# Altium schematic symbol library MCU_ST_STM32C0.SchLib: 28 symbols
Pins are listed as number, name and electrical type; pins without a type are passive.

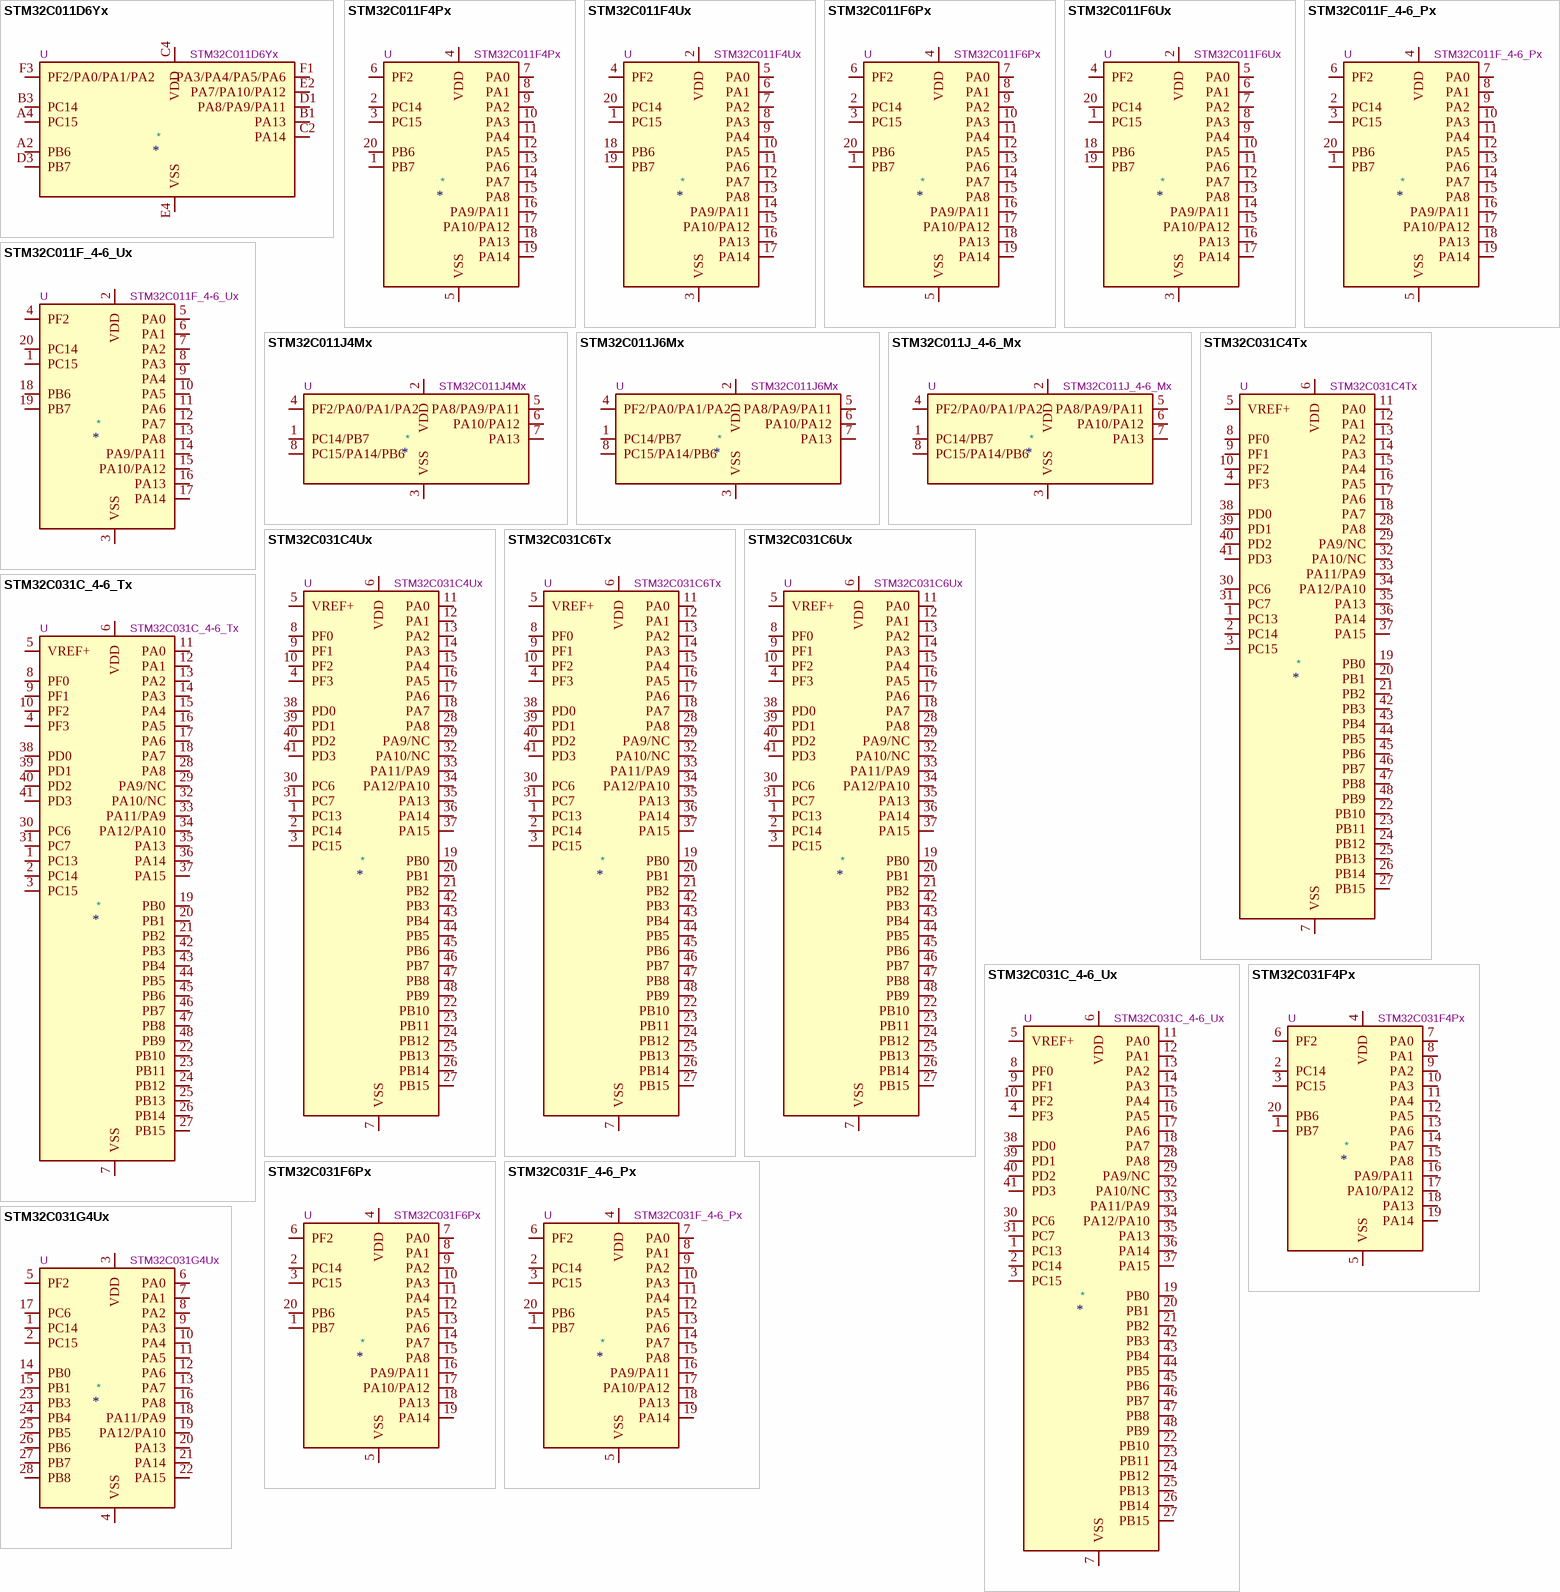
[diagram p0: symbols STM32C011D6Yx to STM32C031G4Ux]

## STM32C011D6Yx
designator *  value STM32C011D6Yx  Reference: U
ki_keywords: Arm Cortex-M0+ STM32C0 STM32C0x1; ki_description: STMicroelectronics Arm Cortex-M0+ MCU, 32KB flash, 6KB RAM, 48 MHz, 2.0-3.6V, 10 GPIO, WLCSP12; ki_fp_filters: ST*WLCSP*Die443*; Footprint: Package_CSP:ST_WLCSP-12_Die443; Datasheet: https://www.st.com/resource/en/datasheet/stm32c011d6.pdf
pins: A2 PB6, A4 PC15, B1 PA13, B3 PC14, C2 PA14, C4 VDD, D1 PA8/PA9/PA11, D3 PB7, E2 PA7/PA10/PA12, E4 VSS, F1 PA3/PA4/PA5/PA6, F3 PF2/PA0/PA1/PA2

## STM32C011F4Px
designator *  value STM32C011F4Px  Reference: U
ki_keywords: Arm Cortex-M0+ STM32C0 STM32C0x1; ki_description: STMicroelectronics Arm Cortex-M0+ MCU, 16KB flash, 6KB RAM, 48 MHz, 2.0-3.6V, 18 GPIO, TSSOP20; ki_fp_filters: TSSOP*4.4x6.5mm*P0.65mm*; Footprint: Package_SO:TSSOP-20_4.4x6.5mm_P0.65mm; Datasheet: https://www.st.com/resource/en/datasheet/stm32c011f4.pdf
pins: 1 PB7, 2 PC14, 3 PC15, 4 VDD, 5 VSS, 6 PF2, 7 PA0, 8 PA1, 9 PA2, 10 PA3, 11 PA4, 12 PA5, 13 PA6, 14 PA7, 15 PA8, 16 PA9/PA11, 17 PA10/PA12, 18 PA13, 19 PA14, 20 PB6

## STM32C011F4Ux
designator *  value STM32C011F4Ux  Reference: U
ki_keywords: Arm Cortex-M0+ STM32C0 STM32C0x1; ki_description: STMicroelectronics Arm Cortex-M0+ MCU, 16KB flash, 6KB RAM, 48 MHz, 2.0-3.6V, 18 GPIO, UFQFPN20; ki_fp_filters: ST*UFQFPN*3x3mm*P0.5mm*; Footprint: Package_DFN_QFN:ST_UFQFPN-20_3x3mm_P0.5mm; Datasheet: https://www.st.com/resource/en/datasheet/stm32c011f4.pdf
pins: 1 PC15, 2 VDD, 3 VSS, 4 PF2, 5 PA0, 6 PA1, 7 PA2, 8 PA3, 9 PA4, 10 PA5, 11 PA6, 12 PA7, 13 PA8, 14 PA9/PA11, 15 PA10/PA12, 16 PA13, 17 PA14, 18 PB6, 19 PB7, 20 PC14

## STM32C011F6Px
designator *  value STM32C011F6Px  Reference: U
ki_keywords: Arm Cortex-M0+ STM32C0 STM32C0x1; ki_description: STMicroelectronics Arm Cortex-M0+ MCU, 32KB flash, 6KB RAM, 48 MHz, 2.0-3.6V, 18 GPIO, TSSOP20; ki_fp_filters: TSSOP*4.4x6.5mm*P0.65mm*; Footprint: Package_SO:TSSOP-20_4.4x6.5mm_P0.65mm; Datasheet: https://www.st.com/resource/en/datasheet/stm32c011f6.pdf
pins: 1 PB7, 2 PC14, 3 PC15, 4 VDD, 5 VSS, 6 PF2, 7 PA0, 8 PA1, 9 PA2, 10 PA3, 11 PA4, 12 PA5, 13 PA6, 14 PA7, 15 PA8, 16 PA9/PA11, 17 PA10/PA12, 18 PA13, 19 PA14, 20 PB6

## STM32C011F6Ux
designator *  value STM32C011F6Ux  Reference: U
ki_keywords: Arm Cortex-M0+ STM32C0 STM32C0x1; ki_description: STMicroelectronics Arm Cortex-M0+ MCU, 32KB flash, 6KB RAM, 48 MHz, 2.0-3.6V, 18 GPIO, UFQFPN20; ki_fp_filters: ST*UFQFPN*3x3mm*P0.5mm*; Footprint: Package_DFN_QFN:ST_UFQFPN-20_3x3mm_P0.5mm; Datasheet: https://www.st.com/resource/en/datasheet/stm32c011f6.pdf
pins: 1 PC15, 2 VDD, 3 VSS, 4 PF2, 5 PA0, 6 PA1, 7 PA2, 8 PA3, 9 PA4, 10 PA5, 11 PA6, 12 PA7, 13 PA8, 14 PA9/PA11, 15 PA10/PA12, 16 PA13, 17 PA14, 18 PB6, 19 PB7, 20 PC14

## STM32C011F_4-6_Px
designator *  value STM32C011F_4-6_Px  Reference: U
ki_keywords: Arm Cortex-M0+ STM32C0 STM32C0x1; ki_description: STMicroelectronics Arm Cortex-M0+ MCU, 16-32KB flash, 6KB RAM, 48 MHz, 2.0-3.6V, 18 GPIO, TSSOP20; ki_fp_filters: TSSOP*4.4x6.5mm*P0.65mm*; Footprint: Package_SO:TSSOP-20_4.4x6.5mm_P0.65mm; Datasheet: https://www.st.com/resource/en/datasheet/stm32c011f4.pdf
pins: 1 PB7, 2 PC14, 3 PC15, 4 VDD, 5 VSS, 6 PF2, 7 PA0, 8 PA1, 9 PA2, 10 PA3, 11 PA4, 12 PA5, 13 PA6, 14 PA7, 15 PA8, 16 PA9/PA11, 17 PA10/PA12, 18 PA13, 19 PA14, 20 PB6

## STM32C011F_4-6_Ux
designator *  value STM32C011F_4-6_Ux  Reference: U
ki_keywords: Arm Cortex-M0+ STM32C0 STM32C0x1; ki_description: STMicroelectronics Arm Cortex-M0+ MCU, 16-32KB flash, 6KB RAM, 48 MHz, 2.0-3.6V, 18 GPIO, UFQFPN20; ki_fp_filters: ST*UFQFPN*3x3mm*P0.5mm*; Footprint: Package_DFN_QFN:ST_UFQFPN-20_3x3mm_P0.5mm; Datasheet: https://www.st.com/resource/en/datasheet/stm32c011f4.pdf
pins: 1 PC15, 2 VDD, 3 VSS, 4 PF2, 5 PA0, 6 PA1, 7 PA2, 8 PA3, 9 PA4, 10 PA5, 11 PA6, 12 PA7, 13 PA8, 14 PA9/PA11, 15 PA10/PA12, 16 PA13, 17 PA14, 18 PB6, 19 PB7, 20 PC14

## STM32C011J4Mx
designator *  value STM32C011J4Mx  Reference: U
ki_keywords: Arm Cortex-M0+ STM32C0 STM32C0x1; ki_description: STMicroelectronics Arm Cortex-M0+ MCU, 16KB flash, 6KB RAM, 48 MHz, 2.0-3.6V, 6 GPIO, SO8N; ki_fp_filters: SO*3.9x4.9mm*P1.27mm*; Footprint: Package_SO:SOIC-8_3.9x4.9mm_P1.27mm; Datasheet: https://www.st.com/resource/en/datasheet/stm32c011j4.pdf
pins: 1 PC14/PB7, 2 VDD, 3 VSS, 4 PF2/PA0/PA1/PA2, 5 PA8/PA9/PA11, 6 PA10/PA12, 7 PA13, 8 PC15/PA14/PB6

## STM32C011J6Mx
designator *  value STM32C011J6Mx  Reference: U
ki_keywords: Arm Cortex-M0+ STM32C0 STM32C0x1; ki_description: STMicroelectronics Arm Cortex-M0+ MCU, 32KB flash, 6KB RAM, 48 MHz, 2.0-3.6V, 6 GPIO, SO8N; ki_fp_filters: SO*3.9x4.9mm*P1.27mm*; Footprint: Package_SO:SOIC-8_3.9x4.9mm_P1.27mm; Datasheet: https://www.st.com/resource/en/datasheet/stm32c011j6.pdf
pins: 1 PC14/PB7, 2 VDD, 3 VSS, 4 PF2/PA0/PA1/PA2, 5 PA8/PA9/PA11, 6 PA10/PA12, 7 PA13, 8 PC15/PA14/PB6

## STM32C011J_4-6_Mx
designator *  value STM32C011J_4-6_Mx  Reference: U
ki_keywords: Arm Cortex-M0+ STM32C0 STM32C0x1; ki_description: STMicroelectronics Arm Cortex-M0+ MCU, 16-32KB flash, 6KB RAM, 48 MHz, 2.0-3.6V, 6 GPIO, SO8N; ki_fp_filters: SO*3.9x4.9mm*P1.27mm*; Footprint: Package_SO:SOIC-8_3.9x4.9mm_P1.27mm; Datasheet: https://www.st.com/resource/en/datasheet/stm32c011j4.pdf
pins: 1 PC14/PB7, 2 VDD, 3 VSS, 4 PF2/PA0/PA1/PA2, 5 PA8/PA9/PA11, 6 PA10/PA12, 7 PA13, 8 PC15/PA14/PB6

## STM32C031C4Tx
designator *  value STM32C031C4Tx  Reference: U
ki_keywords: Arm Cortex-M0+ STM32C0 STM32C0x1; ki_description: STMicroelectronics Arm Cortex-M0+ MCU, 16KB flash, 12KB RAM, 48 MHz, 2.0-3.6V, 45 GPIO, LQFP48; ki_fp_filters: LQFP*7x7mm*P0.5mm*; Footprint: Package_QFP:LQFP-48_7x7mm_P0.5mm; Datasheet: https://www.st.com/resource/en/datasheet/stm32c031c4.pdf
pins: 1 PC13, 2 PC14, 3 PC15, 4 PF3, 5 VREF+, 6 VDD, 7 VSS, 8 PF0, 9 PF1, 10 PF2, 11 PA0, 12 PA1, 13 PA2, 14 PA3, 15 PA4, 16 PA5, 17 PA6, 18 PA7, 19 PB0, 20 PB1, 21 PB2, 22 PB10, 23 PB11, 24 PB12, 25 PB13, 26 PB14, 27 PB15, 28 PA8, 29 PA9/NC, 30 PC6, 31 PC7, 32 PA10/NC, 33 PA11/PA9, 34 PA12/PA10, 35 PA13, 36 PA14, 37 PA15, 38 PD0, 39 PD1, 40 PD2, 41 PD3, 42 PB3, 43 PB4, 44 PB5, 45 PB6, 46 PB7, 47 PB8, 48 PB9

## STM32C031C4Ux
designator *  value STM32C031C4Ux  Reference: U
ki_keywords: Arm Cortex-M0+ STM32C0 STM32C0x1; ki_description: STMicroelectronics Arm Cortex-M0+ MCU, 16KB flash, 12KB RAM, 48 MHz, 2.0-3.6V, 45 GPIO, UFQFPN48; ki_fp_filters: QFN*1EP*7x7mm*P0.5mm*; Footprint: Package_DFN_QFN:QFN-48-1EP_7x7mm_P0.5mm_EP5.6x5.6mm; Datasheet: https://www.st.com/resource/en/datasheet/stm32c031c4.pdf
pins: 1 PC13, 2 PC14, 3 PC15, 4 PF3, 5 VREF+, 6 VDD, 7 VSS, 8 PF0, 9 PF1, 10 PF2, 11 PA0, 12 PA1, 13 PA2, 14 PA3, 15 PA4, 16 PA5, 17 PA6, 18 PA7, 19 PB0, 20 PB1, 21 PB2, 22 PB10, 23 PB11, 24 PB12, 25 PB13, 26 PB14, 27 PB15, 28 PA8, 29 PA9/NC, 30 PC6, 31 PC7, 32 PA10/NC, 33 PA11/PA9, 34 PA12/PA10, 35 PA13, 36 PA14, 37 PA15, 38 PD0, 39 PD1, 40 PD2, 41 PD3, 42 PB3, 43 PB4, 44 PB5, 45 PB6, 46 PB7, 47 PB8, 48 PB9, 49 VSS hidden

## STM32C031C6Tx
designator *  value STM32C031C6Tx  Reference: U
ki_keywords: Arm Cortex-M0+ STM32C0 STM32C0x1; ki_description: STMicroelectronics Arm Cortex-M0+ MCU, 32KB flash, 12KB RAM, 48 MHz, 2.0-3.6V, 45 GPIO, LQFP48; ki_fp_filters: LQFP*7x7mm*P0.5mm*; Footprint: Package_QFP:LQFP-48_7x7mm_P0.5mm; Datasheet: https://www.st.com/resource/en/datasheet/stm32c031c6.pdf
pins: 1 PC13, 2 PC14, 3 PC15, 4 PF3, 5 VREF+, 6 VDD, 7 VSS, 8 PF0, 9 PF1, 10 PF2, 11 PA0, 12 PA1, 13 PA2, 14 PA3, 15 PA4, 16 PA5, 17 PA6, 18 PA7, 19 PB0, 20 PB1, 21 PB2, 22 PB10, 23 PB11, 24 PB12, 25 PB13, 26 PB14, 27 PB15, 28 PA8, 29 PA9/NC, 30 PC6, 31 PC7, 32 PA10/NC, 33 PA11/PA9, 34 PA12/PA10, 35 PA13, 36 PA14, 37 PA15, 38 PD0, 39 PD1, 40 PD2, 41 PD3, 42 PB3, 43 PB4, 44 PB5, 45 PB6, 46 PB7, 47 PB8, 48 PB9

## STM32C031C6Ux
designator *  value STM32C031C6Ux  Reference: U
ki_keywords: Arm Cortex-M0+ STM32C0 STM32C0x1; ki_description: STMicroelectronics Arm Cortex-M0+ MCU, 32KB flash, 12KB RAM, 48 MHz, 2.0-3.6V, 45 GPIO, UFQFPN48; ki_fp_filters: QFN*1EP*7x7mm*P0.5mm*; Footprint: Package_DFN_QFN:QFN-48-1EP_7x7mm_P0.5mm_EP5.6x5.6mm; Datasheet: https://www.st.com/resource/en/datasheet/stm32c031c6.pdf
pins: 1 PC13, 2 PC14, 3 PC15, 4 PF3, 5 VREF+, 6 VDD, 7 VSS, 8 PF0, 9 PF1, 10 PF2, 11 PA0, 12 PA1, 13 PA2, 14 PA3, 15 PA4, 16 PA5, 17 PA6, 18 PA7, 19 PB0, 20 PB1, 21 PB2, 22 PB10, 23 PB11, 24 PB12, 25 PB13, 26 PB14, 27 PB15, 28 PA8, 29 PA9/NC, 30 PC6, 31 PC7, 32 PA10/NC, 33 PA11/PA9, 34 PA12/PA10, 35 PA13, 36 PA14, 37 PA15, 38 PD0, 39 PD1, 40 PD2, 41 PD3, 42 PB3, 43 PB4, 44 PB5, 45 PB6, 46 PB7, 47 PB8, 48 PB9, 49 VSS hidden

## STM32C031C_4-6_Tx
designator *  value STM32C031C_4-6_Tx  Reference: U
ki_keywords: Arm Cortex-M0+ STM32C0 STM32C0x1; ki_description: STMicroelectronics Arm Cortex-M0+ MCU, 16-32KB flash, 12KB RAM, 48 MHz, 2.0-3.6V, 45 GPIO, LQFP48; ki_fp_filters: LQFP*7x7mm*P0.5mm*; Footprint: Package_QFP:LQFP-48_7x7mm_P0.5mm; Datasheet: https://www.st.com/resource/en/datasheet/stm32c031c4.pdf
pins: 1 PC13, 2 PC14, 3 PC15, 4 PF3, 5 VREF+, 6 VDD, 7 VSS, 8 PF0, 9 PF1, 10 PF2, 11 PA0, 12 PA1, 13 PA2, 14 PA3, 15 PA4, 16 PA5, 17 PA6, 18 PA7, 19 PB0, 20 PB1, 21 PB2, 22 PB10, 23 PB11, 24 PB12, 25 PB13, 26 PB14, 27 PB15, 28 PA8, 29 PA9/NC, 30 PC6, 31 PC7, 32 PA10/NC, 33 PA11/PA9, 34 PA12/PA10, 35 PA13, 36 PA14, 37 PA15, 38 PD0, 39 PD1, 40 PD2, 41 PD3, 42 PB3, 43 PB4, 44 PB5, 45 PB6, 46 PB7, 47 PB8, 48 PB9

## STM32C031C_4-6_Ux
designator *  value STM32C031C_4-6_Ux  Reference: U
ki_keywords: Arm Cortex-M0+ STM32C0 STM32C0x1; ki_description: STMicroelectronics Arm Cortex-M0+ MCU, 16-32KB flash, 12KB RAM, 48 MHz, 2.0-3.6V, 45 GPIO, UFQFPN48; ki_fp_filters: QFN*1EP*7x7mm*P0.5mm*; Footprint: Package_DFN_QFN:QFN-48-1EP_7x7mm_P0.5mm_EP5.6x5.6mm; Datasheet: https://www.st.com/resource/en/datasheet/stm32c031c4.pdf
pins: 1 PC13, 2 PC14, 3 PC15, 4 PF3, 5 VREF+, 6 VDD, 7 VSS, 8 PF0, 9 PF1, 10 PF2, 11 PA0, 12 PA1, 13 PA2, 14 PA3, 15 PA4, 16 PA5, 17 PA6, 18 PA7, 19 PB0, 20 PB1, 21 PB2, 22 PB10, 23 PB11, 24 PB12, 25 PB13, 26 PB14, 27 PB15, 28 PA8, 29 PA9/NC, 30 PC6, 31 PC7, 32 PA10/NC, 33 PA11/PA9, 34 PA12/PA10, 35 PA13, 36 PA14, 37 PA15, 38 PD0, 39 PD1, 40 PD2, 41 PD3, 42 PB3, 43 PB4, 44 PB5, 45 PB6, 46 PB7, 47 PB8, 48 PB9, 49 VSS hidden

## STM32C031F4Px
designator *  value STM32C031F4Px  Reference: U
ki_keywords: Arm Cortex-M0+ STM32C0 STM32C0x1; ki_description: STMicroelectronics Arm Cortex-M0+ MCU, 16KB flash, 12KB RAM, 48 MHz, 2.0-3.6V, 18 GPIO, TSSOP20; ki_fp_filters: TSSOP*4.4x6.5mm*P0.65mm*; Footprint: Package_SO:TSSOP-20_4.4x6.5mm_P0.65mm; Datasheet: https://www.st.com/resource/en/datasheet/stm32c031f4.pdf
pins: 1 PB7, 2 PC14, 3 PC15, 4 VDD, 5 VSS, 6 PF2, 7 PA0, 8 PA1, 9 PA2, 10 PA3, 11 PA4, 12 PA5, 13 PA6, 14 PA7, 15 PA8, 16 PA9/PA11, 17 PA10/PA12, 18 PA13, 19 PA14, 20 PB6

## STM32C031F6Px
designator *  value STM32C031F6Px  Reference: U
ki_keywords: Arm Cortex-M0+ STM32C0 STM32C0x1; ki_description: STMicroelectronics Arm Cortex-M0+ MCU, 32KB flash, 12KB RAM, 48 MHz, 2.0-3.6V, 18 GPIO, TSSOP20; ki_fp_filters: TSSOP*4.4x6.5mm*P0.65mm*; Footprint: Package_SO:TSSOP-20_4.4x6.5mm_P0.65mm; Datasheet: https://www.st.com/resource/en/datasheet/stm32c031f6.pdf
pins: 1 PB7, 2 PC14, 3 PC15, 4 VDD, 5 VSS, 6 PF2, 7 PA0, 8 PA1, 9 PA2, 10 PA3, 11 PA4, 12 PA5, 13 PA6, 14 PA7, 15 PA8, 16 PA9/PA11, 17 PA10/PA12, 18 PA13, 19 PA14, 20 PB6

## STM32C031F_4-6_Px
designator *  value STM32C031F_4-6_Px  Reference: U
ki_keywords: Arm Cortex-M0+ STM32C0 STM32C0x1; ki_description: STMicroelectronics Arm Cortex-M0+ MCU, 16-32KB flash, 12KB RAM, 48 MHz, 2.0-3.6V, 18 GPIO, TSSOP20; ki_fp_filters: TSSOP*4.4x6.5mm*P0.65mm*; Footprint: Package_SO:TSSOP-20_4.4x6.5mm_P0.65mm; Datasheet: https://www.st.com/resource/en/datasheet/stm32c031f4.pdf
pins: 1 PB7, 2 PC14, 3 PC15, 4 VDD, 5 VSS, 6 PF2, 7 PA0, 8 PA1, 9 PA2, 10 PA3, 11 PA4, 12 PA5, 13 PA6, 14 PA7, 15 PA8, 16 PA9/PA11, 17 PA10/PA12, 18 PA13, 19 PA14, 20 PB6

## STM32C031G4Ux
designator *  value STM32C031G4Ux  Reference: U
ki_keywords: Arm Cortex-M0+ STM32C0 STM32C0x1; ki_description: STMicroelectronics Arm Cortex-M0+ MCU, 16KB flash, 12KB RAM, 48 MHz, 2.0-3.6V, 26 GPIO, UFQFPN28; ki_fp_filters: QFN*4x4mm*P0.5mm*; Footprint: Package_DFN_QFN:QFN-28_4x4mm_P0.5mm; Datasheet: https://www.st.com/resource/en/datasheet/stm32c031g4.pdf
pins: 1 PC14, 2 PC15, 3 VDD, 4 VSS, 5 PF2, 6 PA0, 7 PA1, 8 PA2, 9 PA3, 10 PA4, 11 PA5, 12 PA6, 13 PA7, 14 PB0, 15 PB1, 16 PA8, 17 PC6, 18 PA11/PA9, 19 PA12/PA10, 20 PA13, 21 PA14, 22 PA15, 23 PB3, 24 PB4, 25 PB5, 26 PB6, 27 PB7, 28 PB8

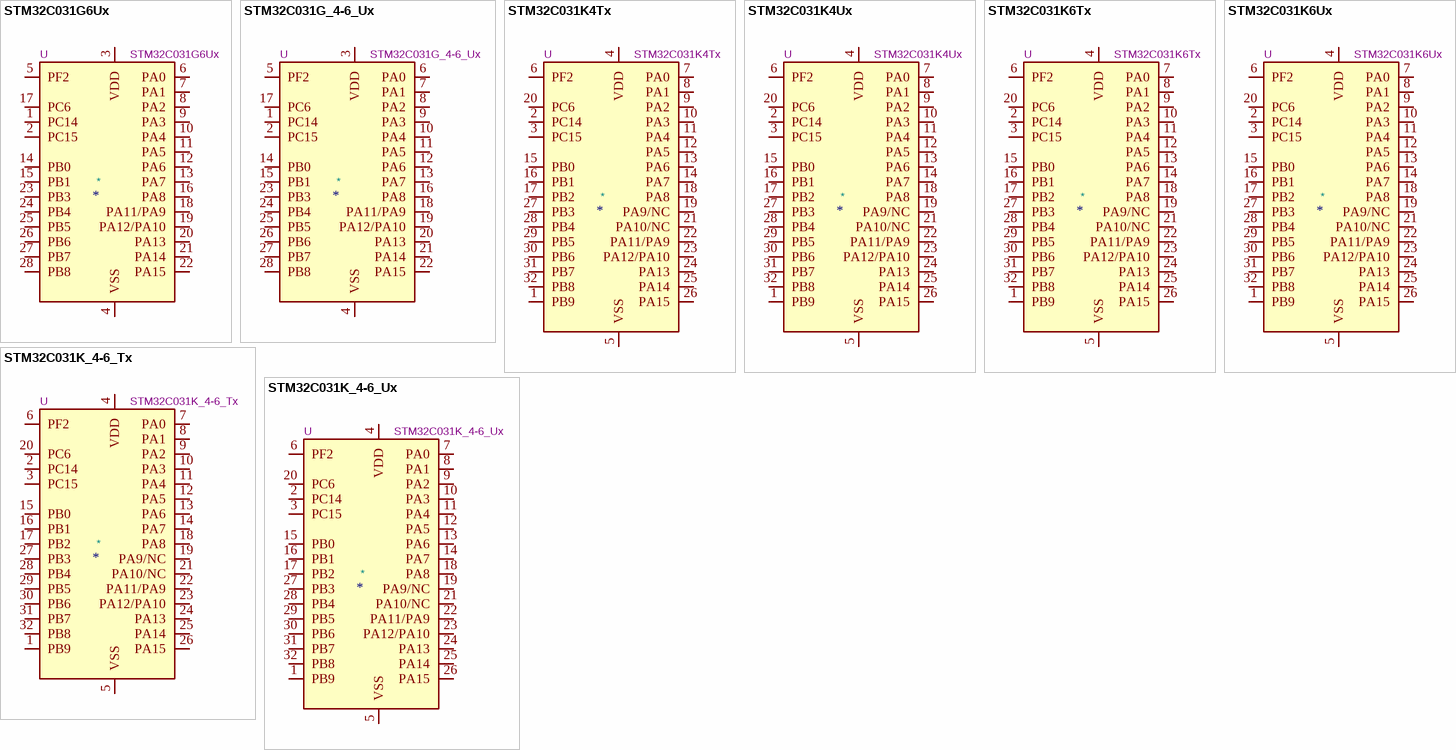
[diagram p1: symbols STM32C031G6Ux to STM32C031K_4-6_Ux]

## STM32C031G6Ux
designator *  value STM32C031G6Ux  Reference: U
ki_keywords: Arm Cortex-M0+ STM32C0 STM32C0x1; ki_description: STMicroelectronics Arm Cortex-M0+ MCU, 32KB flash, 12KB RAM, 48 MHz, 2.0-3.6V, 26 GPIO, UFQFPN28; ki_fp_filters: QFN*4x4mm*P0.5mm*; Footprint: Package_DFN_QFN:QFN-28_4x4mm_P0.5mm; Datasheet: https://www.st.com/resource/en/datasheet/stm32c031g6.pdf
pins: 1 PC14, 2 PC15, 3 VDD, 4 VSS, 5 PF2, 6 PA0, 7 PA1, 8 PA2, 9 PA3, 10 PA4, 11 PA5, 12 PA6, 13 PA7, 14 PB0, 15 PB1, 16 PA8, 17 PC6, 18 PA11/PA9, 19 PA12/PA10, 20 PA13, 21 PA14, 22 PA15, 23 PB3, 24 PB4, 25 PB5, 26 PB6, 27 PB7, 28 PB8

## STM32C031G_4-6_Ux
designator *  value STM32C031G_4-6_Ux  Reference: U
ki_keywords: Arm Cortex-M0+ STM32C0 STM32C0x1; ki_description: STMicroelectronics Arm Cortex-M0+ MCU, 16-32KB flash, 12KB RAM, 48 MHz, 2.0-3.6V, 26 GPIO, UFQFPN28; ki_fp_filters: QFN*4x4mm*P0.5mm*; Footprint: Package_DFN_QFN:QFN-28_4x4mm_P0.5mm; Datasheet: https://www.st.com/resource/en/datasheet/stm32c031g4.pdf
pins: 1 PC14, 2 PC15, 3 VDD, 4 VSS, 5 PF2, 6 PA0, 7 PA1, 8 PA2, 9 PA3, 10 PA4, 11 PA5, 12 PA6, 13 PA7, 14 PB0, 15 PB1, 16 PA8, 17 PC6, 18 PA11/PA9, 19 PA12/PA10, 20 PA13, 21 PA14, 22 PA15, 23 PB3, 24 PB4, 25 PB5, 26 PB6, 27 PB7, 28 PB8

## STM32C031K4Tx
designator *  value STM32C031K4Tx  Reference: U
ki_keywords: Arm Cortex-M0+ STM32C0 STM32C0x1; ki_description: STMicroelectronics Arm Cortex-M0+ MCU, 16KB flash, 12KB RAM, 48 MHz, 2.0-3.6V, 30 GPIO, LQFP32; ki_fp_filters: LQFP*7x7mm*P0.8mm*; Footprint: Package_QFP:LQFP-32_7x7mm_P0.8mm; Datasheet: https://www.st.com/resource/en/datasheet/stm32c031k4.pdf
pins: 1 PB9, 2 PC14, 3 PC15, 4 VDD, 5 VSS, 6 PF2, 7 PA0, 8 PA1, 9 PA2, 10 PA3, 11 PA4, 12 PA5, 13 PA6, 14 PA7, 15 PB0, 16 PB1, 17 PB2, 18 PA8, 19 PA9/NC, 20 PC6, 21 PA10/NC, 22 PA11/PA9, 23 PA12/PA10, 24 PA13, 25 PA14, 26 PA15, 27 PB3, 28 PB4, 29 PB5, 30 PB6, 31 PB7, 32 PB8

## STM32C031K4Ux
designator *  value STM32C031K4Ux  Reference: U
ki_keywords: Arm Cortex-M0+ STM32C0 STM32C0x1; ki_description: STMicroelectronics Arm Cortex-M0+ MCU, 16KB flash, 12KB RAM, 48 MHz, 2.0-3.6V, 30 GPIO, UFQFPN32; ki_fp_filters: QFN*1EP*5x5mm*P0.5mm*; Footprint: Package_DFN_QFN:QFN-32-1EP_5x5mm_P0.5mm_EP3.45x3.45mm; Datasheet: https://www.st.com/resource/en/datasheet/stm32c031k4.pdf
pins: 1 PB9, 2 PC14, 3 PC15, 4 VDD, 5 VSS, 6 PF2, 7 PA0, 8 PA1, 9 PA2, 10 PA3, 11 PA4, 12 PA5, 13 PA6, 14 PA7, 15 PB0, 16 PB1, 17 PB2, 18 PA8, 19 PA9/NC, 20 PC6, 21 PA10/NC, 22 PA11/PA9, 23 PA12/PA10, 24 PA13, 25 PA14, 26 PA15, 27 PB3, 28 PB4, 29 PB5, 30 PB6, 31 PB7, 32 PB8, 33 VSS hidden

## STM32C031K6Tx
designator *  value STM32C031K6Tx  Reference: U
ki_keywords: Arm Cortex-M0+ STM32C0 STM32C0x1; ki_description: STMicroelectronics Arm Cortex-M0+ MCU, 32KB flash, 12KB RAM, 48 MHz, 2.0-3.6V, 30 GPIO, LQFP32; ki_fp_filters: LQFP*7x7mm*P0.8mm*; Footprint: Package_QFP:LQFP-32_7x7mm_P0.8mm; Datasheet: https://www.st.com/resource/en/datasheet/stm32c031k6.pdf
pins: 1 PB9, 2 PC14, 3 PC15, 4 VDD, 5 VSS, 6 PF2, 7 PA0, 8 PA1, 9 PA2, 10 PA3, 11 PA4, 12 PA5, 13 PA6, 14 PA7, 15 PB0, 16 PB1, 17 PB2, 18 PA8, 19 PA9/NC, 20 PC6, 21 PA10/NC, 22 PA11/PA9, 23 PA12/PA10, 24 PA13, 25 PA14, 26 PA15, 27 PB3, 28 PB4, 29 PB5, 30 PB6, 31 PB7, 32 PB8

## STM32C031K6Ux
designator *  value STM32C031K6Ux  Reference: U
ki_keywords: Arm Cortex-M0+ STM32C0 STM32C0x1; ki_description: STMicroelectronics Arm Cortex-M0+ MCU, 32KB flash, 12KB RAM, 48 MHz, 2.0-3.6V, 30 GPIO, UFQFPN32; ki_fp_filters: QFN*1EP*5x5mm*P0.5mm*; Footprint: Package_DFN_QFN:QFN-32-1EP_5x5mm_P0.5mm_EP3.45x3.45mm; Datasheet: https://www.st.com/resource/en/datasheet/stm32c031k6.pdf
pins: 1 PB9, 2 PC14, 3 PC15, 4 VDD, 5 VSS, 6 PF2, 7 PA0, 8 PA1, 9 PA2, 10 PA3, 11 PA4, 12 PA5, 13 PA6, 14 PA7, 15 PB0, 16 PB1, 17 PB2, 18 PA8, 19 PA9/NC, 20 PC6, 21 PA10/NC, 22 PA11/PA9, 23 PA12/PA10, 24 PA13, 25 PA14, 26 PA15, 27 PB3, 28 PB4, 29 PB5, 30 PB6, 31 PB7, 32 PB8, 33 VSS hidden

## STM32C031K_4-6_Tx
designator *  value STM32C031K_4-6_Tx  Reference: U
ki_keywords: Arm Cortex-M0+ STM32C0 STM32C0x1; ki_description: STMicroelectronics Arm Cortex-M0+ MCU, 16-32KB flash, 12KB RAM, 48 MHz, 2.0-3.6V, 30 GPIO, LQFP32; ki_fp_filters: LQFP*7x7mm*P0.8mm*; Footprint: Package_QFP:LQFP-32_7x7mm_P0.8mm; Datasheet: https://www.st.com/resource/en/datasheet/stm32c031k4.pdf
pins: 1 PB9, 2 PC14, 3 PC15, 4 VDD, 5 VSS, 6 PF2, 7 PA0, 8 PA1, 9 PA2, 10 PA3, 11 PA4, 12 PA5, 13 PA6, 14 PA7, 15 PB0, 16 PB1, 17 PB2, 18 PA8, 19 PA9/NC, 20 PC6, 21 PA10/NC, 22 PA11/PA9, 23 PA12/PA10, 24 PA13, 25 PA14, 26 PA15, 27 PB3, 28 PB4, 29 PB5, 30 PB6, 31 PB7, 32 PB8

## STM32C031K_4-6_Ux
designator *  value STM32C031K_4-6_Ux  Reference: U
ki_keywords: Arm Cortex-M0+ STM32C0 STM32C0x1; ki_description: STMicroelectronics Arm Cortex-M0+ MCU, 16-32KB flash, 12KB RAM, 48 MHz, 2.0-3.6V, 30 GPIO, UFQFPN32; ki_fp_filters: QFN*1EP*5x5mm*P0.5mm*; Footprint: Package_DFN_QFN:QFN-32-1EP_5x5mm_P0.5mm_EP3.45x3.45mm; Datasheet: https://www.st.com/resource/en/datasheet/stm32c031k4.pdf
pins: 1 PB9, 2 PC14, 3 PC15, 4 VDD, 5 VSS, 6 PF2, 7 PA0, 8 PA1, 9 PA2, 10 PA3, 11 PA4, 12 PA5, 13 PA6, 14 PA7, 15 PB0, 16 PB1, 17 PB2, 18 PA8, 19 PA9/NC, 20 PC6, 21 PA10/NC, 22 PA11/PA9, 23 PA12/PA10, 24 PA13, 25 PA14, 26 PA15, 27 PB3, 28 PB4, 29 PB5, 30 PB6, 31 PB7, 32 PB8, 33 VSS hidden